# EAGLE library part IMT_901 (library untitled)
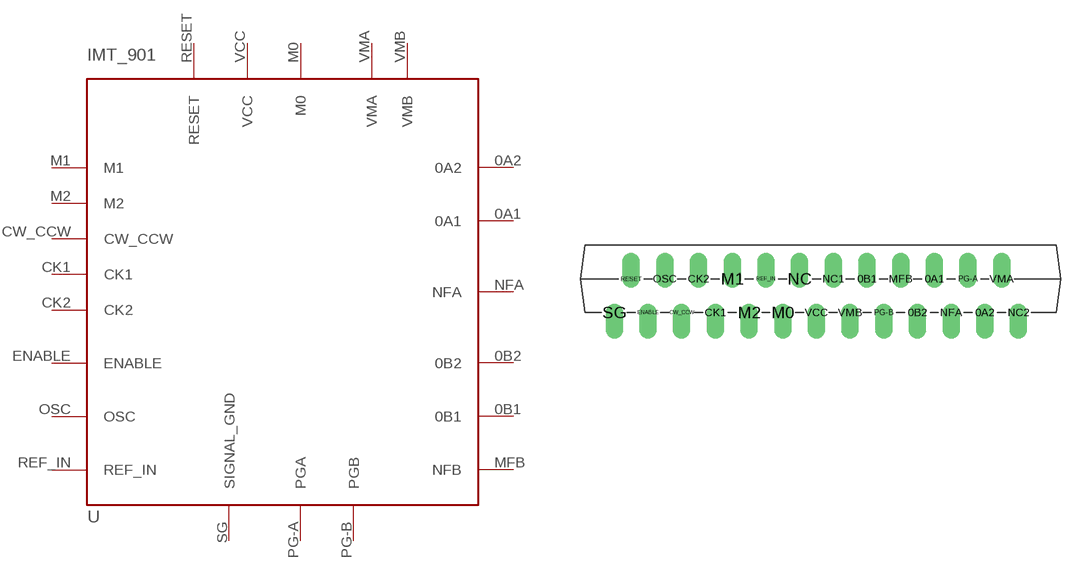
[diagram p0: symbol with the pads of CPP-25; footprint CPP-25]

Designator prefix -

## IMT_901  [CPP-25]
0A1  0A1  out
0A2  0A2  out
0B1  0B1  out
0B2  0B2  out
CK1  CK1
CK2  CK2
CW_CCW  CW_CCW
ENABLE  ENABLE
M0  M0
M1  M1
M2  M2
MFB  NFB  in
NFA  NFA  in
OSC  OSC  oc
PG-A  PGA  pwr
PG-B  PGB  pwr
REF_IN  REF_IN
RESET  RESET
SG  SIGNAL_GND  pwr
VCC  VCC  pwr
VMA  VMA  pwr
VMB  VMB  pwr

## Footprint CPP-25 (pad centres in mm)
drill 0.8 offset: 0A1 26.67,2.54; 0A2 30.48,0; 0B1 21.59,2.54; 0B2 25.4,0; CK1 10.16,0; CK2 8.89,2.54; CW_CCW 7.62,0; ENABLE 5.08,0; M0 15.24,0; M1 11.43,2.54; M2 12.7,0; MFB 24.13,2.54; NC 16.51,2.54; NC1 19.05,2.54; NC2 33.02,0; NFA 27.94,0; OSC 6.35,2.54; PG-A 29.21,2.54; PG-B 22.86,0; REF_IN 13.97,2.54; RESET 3.81,2.54; SG 2.54,0; VCC 17.78,0; VMA 31.75,2.54; VMB 20.32,0